# Altium footprint library QFN-44_7x7x05P.PcbLib: 1 footprints
Each footprint in its own frame and in the unit in brackets; x right, y up, seen from the top. Pads: shape width x height; smd on the part's side, far side on the other; paste and mask are expansions set on the pad; w line width, h text height; cw(c..) or ccw(c..) is an arc to the next point about the centre after c.
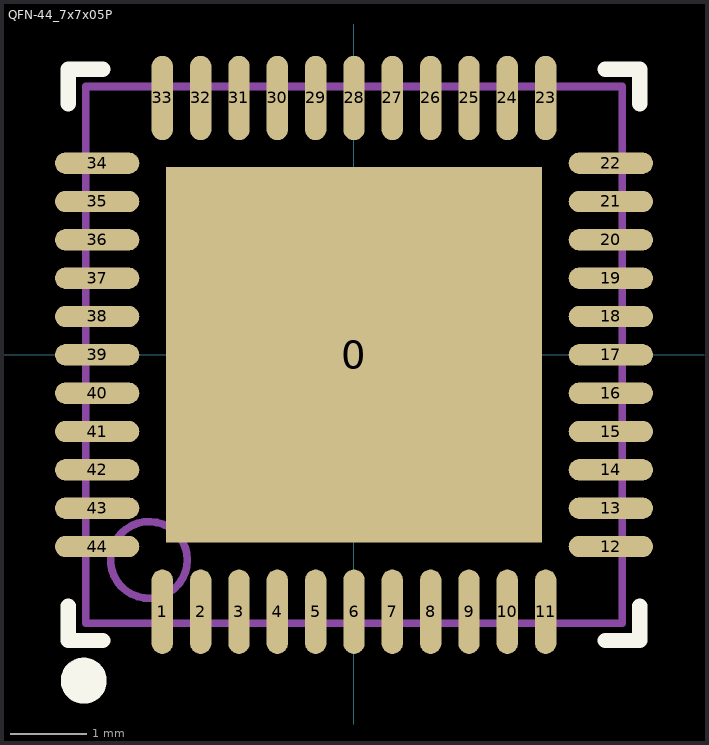
[diagram p0: the footprint, top view; thin cyan lines are the x and y axes]

## QFN-44_7x7x05P [mm]
pads (45):
  rect 4.9x4.9 smd mask+0.051: 0(0,0)
  oval 0.28x1.1 smd mask+0.051: 1(-2.5,-3.35) 2(-2,-3.35) 3(-1.5,-3.35) 4(-1,-3.35) 5(-0.5,-3.35) 6(0,-3.35) 7(0.5,-3.35) 8(1,-3.35) 9(1.5,-3.35) 10(2,-3.35) 11(2.5,-3.35) 23(2.5,3.35) 24(2,3.35) 25(1.5,3.35) 26(1,3.35) 27(0.5,3.35) 28(0,3.35) 29(-0.5,3.35) 30(-1,3.35) 31(-1.5,3.35) 32(-2,3.35) 33(-2.5,3.35)
  oval 1.1x0.28 smd mask+0.051: 12(3.35,-2.5) 13(3.35,-2) 14(3.35,-1.5) 15(3.35,-1) 16(3.35,-0.5) 17(3.35,0) 18(3.35,0.5) 19(3.35,1) 20(3.35,1.5) 21(3.35,2) 22(3.35,2.5) 34(-3.35,2.5) 35(-3.35,2) 36(-3.35,1.5) 37(-3.35,1) 38(-3.35,0.5) 39(-3.35,0) 40(-3.35,-0.5) 41(-3.35,-1) 42(-3.35,-1.5) 43(-3.35,-2) 44(-3.35,-2.5)
Top Overlay:
  circle w0.3: c-3.525,-4.25 r0.15
  lines w0.2: -3.725,-3.275 -3.725,-3.725 -3.275,-3.725 ; -3.725,3.275 -3.725,3.725 -3.275,3.725 ; 3.275,-3.725 3.725,-3.725 3.725,-3.275 ; 3.275,3.725 3.725,3.725 3.725,3.275
Mechanical 13:
  circle w0.1: c-2.675,-2.675 r0.5
  lines w0.1: -3.5,-3.5 3.5,-3.5 3.5,3.5 -3.5,3.5 -3.5,-3.5